# Altium footprint library D10L20H.PcbLib: 1 footprints
Each footprint in its own frame and in the unit in brackets; x right, y up, seen from the top. Pads: shape width x height; smd on the part's side, far side on the other; paste and mask are expansions set on the pad; w line width, h text height; cw(c..) or ccw(c..) is an arc to the next point about the centre after c.
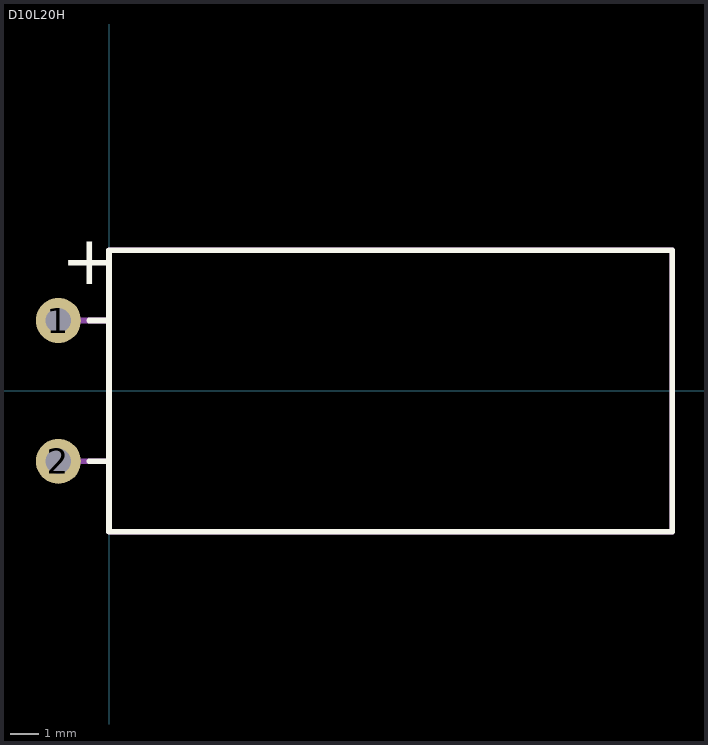
[diagram p0: the footprint, top view; thin cyan lines are the x and y axes]

## D10L20H [mm]
height 6.3
pads (2):
  round 1.6 hole 0.9: 1(-1.8,2.5) 2(-1.8,-2.5)
Top Overlay:
  lines w0.2: -0.7,-2.5 0,-2.5 ; -0.7,2.5 0,2.5 ; 0,-5 0,5 20,5 20,-5 0,-5
  text "+" at -1.7,3.2 h3
Mechanical 7:
  lines w0.2: -1.8,-2.5 0,-2.5 ; -1.8,2.5 0,2.5 ; 0,-5 0,5 20,5 20,-5 0,-5
  text "+" at 0.5,1.75 h3
3D body "cap_el_horizontal_d10_h20_p5_w0.6.stp": height 10.1, standoff -3, extent -2.1,-5.01 20.01,5